# Altium footprint library SILKSCREEN-MISC-SYMBOLS.PcbLib: 4 footprints
Each footprint in its own frame and in the unit in brackets; x right, y up, seen from the top. Pads: shape width x height; smd on the part's side, far side on the other; paste and mask are expansions set on the pad; w line width, h text height; cw(c..) or ccw(c..) is an arc to the next point about the centre after c.
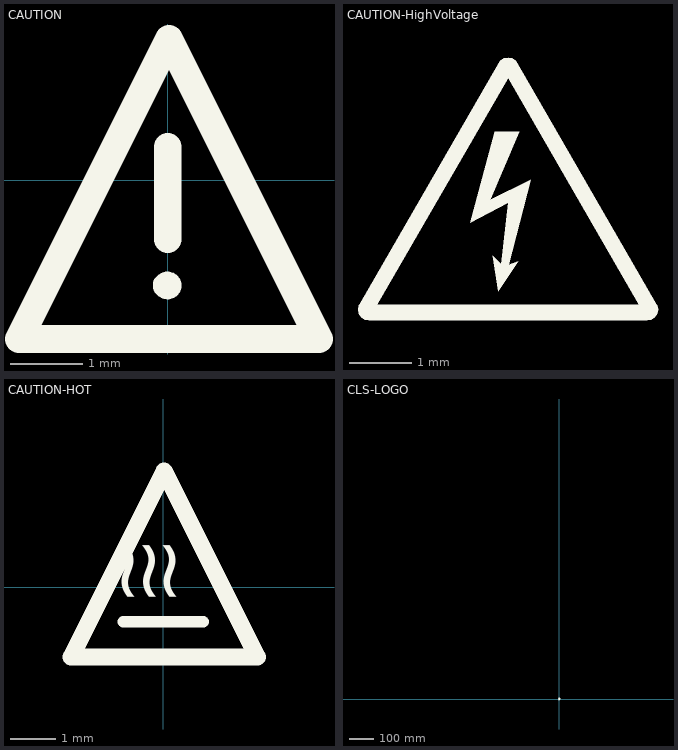
[diagram p0: the footprints below, top view; thin cyan lines are the x and y axes]

## CAUTION [mm] "Caution silkscreen symbol"
Top Overlay:
  circle w0.127: c0,-1.448 r0.127
  circle w0.254: c-0.025,-1.448 r0.051
  lines w0.381: 0,-0.813 0,0.457 ; -2.045,-2.184 0.019,1.943 2.083,-2.184 -2.045,-2.184

## CAUTION-HighVoltage [mm] "High Voltage silkscreen warning"
Top Overlay:
  region: -1234.997,-1250.482 -1234.35,-1250.168 -1234.699,-1251.522 -1234.549,-1251.466 -1234.874,-1251.947 -1234.961,-1251.38 -1234.82,-1251.513 -1234.713,-1250.531 -1235.32,-1250.848 -1234.93,-1249.397 -1234.535,-1249.397
  region: -1234.647,-1248.227 -1234.591,-1248.265 -1234.565,-1248.302 -1232.343,-1252.152 -1232.33,-1252.171 -1232.317,-1252.238 -1232.33,-1252.305 -1232.368,-1252.361 -1232.425,-1252.399 -1232.492,-1252.412 -1236.937,-1252.409 -1236.937,-1252.412 -1237.004,-1252.399 -1237.06,-1252.361 -1237.098,-1252.305 -1237.111,-1252.238 -1237.098,-1252.171 -1237.085,-1252.152 -1234.863,-1248.302 -1234.838,-1248.265 -1234.781,-1248.227 -1234.714,-1248.213 hole: -1234.714,-1248.553 -1236.794,-1252.155 -1232.635,-1252.155

## CAUTION-HOT [mm] "Caution Hot Silkscreen symbol"
Top Overlay:
  lines w0.254: -0.889,-0.762 0.889,-0.762
  lines w0.381: -2.045,-1.549 0.019,2.578 2.083,-1.549 -2.045,-1.549
  text "~" at 1.168,-0.406 h2.29
  text "~" at 0.711,-0.406 h2.29
  text "~" at 0.229,-0.406 h2.29

## CLS-LOGO [mm] "CLS LOGO Silkscreen"
Top Overlay:
  drawing of 59 lines, arcs and shapes, not listed